# Altium schematic symbol library PrototipoBotao.SchLib: 31 symbols (part 1 of 3)
Pins are listed as number, name and electrical type; pins without a type are passive.

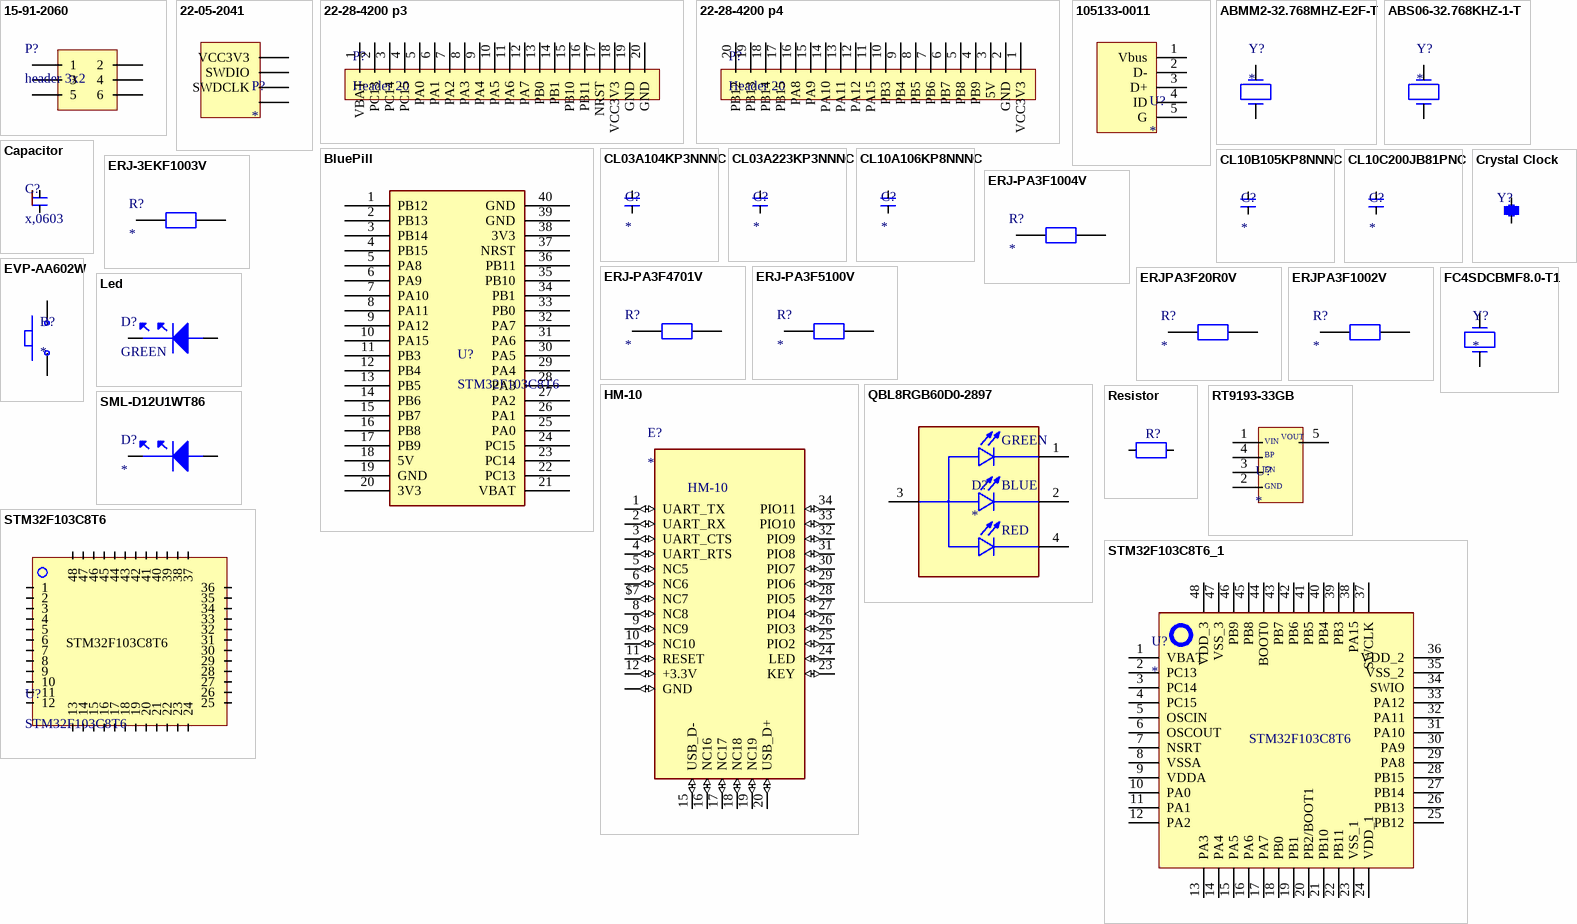
[diagram p0: symbols 15-91-2060 to STM32F103C8T6_1]

## 15-91-2060
designator P?, comment header 3x2
Conn Unshrouded Header HDR 6 POS 2.54mm Solder ST Top Entry SMD C-Grid Bag; Manufacturer: Molex; Manufacturer Lifecycle Status: ACTIVE; Contact Resistance: 15mΩ; Current Rating: 3A; Gender: Male; Glow Wire Compliant: Non-compliant; Max Voltage Rating (DC): 250.25kV; Number of Circuits: 5; Number of Contacts: 6; Plating: Tin; Plating Thickness: 3.81µm; Row Spacing: 4.44mm; Voltage Rating: 250V; Supplier: DigiKey; Supplier Part Number: WM17449-ND; Manufacturer Part Number: 15-91-2060; RoHS: Compliant; Category: Headers and Wire Housings; Stock: 6382; Pricing: 1=0,64, 10=0,54, 100=0,4586, 500=0,40928, 1000=0,38974, 5000=0,3479, 10000=0,3313 (USD); China RoHS: Compliant; Contact Gender: Male; Contact Material: Brass; Contact Plating: Tin; Country of Origin: US; ELV: Compliant; Flammability Rating: UL94 V-0; Halogen Free: Low Halogen; Housing Color: Black; Housing Material: Thermoplastic; Lead Free: Lead Free; Lead Pitch: 2.54mm; Lifecycle Status: Production; Material: Bronze; Max Operating Temperature: 105°C; Min Operating Temperature: -40°C; Mounting Technology: Surface Mount; Pins: 6; Number of Positions: 6; Number of Rows: 1; Orientation: Right Angle, Vertical; Packaging: Bulk; Pitch: 2.54mm; Radiation Hardening: No; REACH SVHC: Yes; Schedule B: 8536694040, 8536694040|8536694040|8536694040|8536694040|8536694040; Terminal Pitch: 2.54mm; Termination: SMD/SMT; Voltage Rating (DC): 250V; ComponentLink1URL: https://datasheet.octopart.com:443/015-91-2060-Molex-datasheet-180714819.pdf?src-supplier=IHS; ComponentLink1Description: https://datasheet.octopart.com:443/015-91-2060-Molex-datasheet-180714819.pdf?src-supplier=IHS; ComponentLink2URL: https://datasheet.octopart.com:443/015912060-Molex-datasheet-8333535.pdf?src-supplier=Upverter; ComponentLink2Description: https://datasheet.octopart.com:443/015912060-Molex-datasheet-8333535.pdf?src-supplier=Upverter; ComponentLink3URL: https://datasheet.octopart.com:443/15-91-2060-Molex-datasheet-167255.pdf?src-supplier=Newark; ComponentLink3Description: https://datasheet.octopart.com:443/15-91-2060-Molex-datasheet-167255.pdf?src-supplier=Newark; ComponentLink4URL: https://datasheet.octopart.com:443/15-91-2060-Molex-datasheet-112140292.pdf?src-supplier=Newark; ComponentLink4Description: https://datasheet.octopart.com:443/15-91-2060-Molex-datasheet-112140292.pdf?src-supplier=Newark; ComponentLink5URL: https://datasheet.octopart.com:443/15-91-2060-Molex-datasheet-32867571.pdf?src-supplier=Newark; ComponentLink5Description: https://datasheet.octopart.com:443/15-91-2060-Molex-datasheet-32867571.pdf?src-supplier=Newark; ComponentLink6URL: https://datasheet.octopart.com:443/15-91-2060-Molex-datasheet-21205732.pdf?src-supplier=Newark; ComponentLink6Description: https://datasheet.octopart.com:443/15-91-2060-Molex-datasheet-21205732.pdf?src-supplier=Newark; ComponentLink7URL: https://datasheet.octopart.com:443/15-91-2060-Molex-datasheet-13784410.pdf?src-supplier=Molex; ComponentLink7Description: https://datasheet.octopart.com:443/15-91-2060-Molex-datasheet-13784410.pdf?src-supplier=Molex; ComponentLink8URL: https://sigma.octopart.com:443/11591496/technical_drawing/Molex-15-91-2060.pdf?src-supplier=Molex; ComponentLink8Description: https://sigma.octopart.com:443/11591496/technical_drawing/Molex-15-91-2060.pdf?src-supplier=Molex; ComponentLink9URL: https://datasheet.octopart.com:443/15-91-2060-Molex-datasheet-101580612.pdf?src-supplier=element14+APAC; ComponentLink9Description: https://datasheet.octopart.com:443/15-91-2060-Molex-datasheet-101580612.pdf?src-supplier=element14+APAC; ComponentLink10URL: https://datasheet.octopart.com:443/15-91-2060-Molex-datasheet-154743799.pdf?src-supplier=Master+Electronics; ComponentLink10Description: https://datasheet.octopart.com:443/15-91-2060-Molex-datasheet-154743799.pdf?src-supplier=Master+Electronics; ComponentLink11URL: https://datasheet.octopart.com:443/15-91-2060-Molex-datasheet-21826448.pdf?src-supplier=Electro+Sonic; ComponentLink11Description: https://datasheet.octopart.com:443/15-91-2060-Molex-datasheet-21826448.pdf?src-supplier=Electro+Sonic; ComponentLink12URL: https://datasheet.octopart.com:443/15-91-2060-Molex-datasheet-62103021.pdf?src-supplier=Electro+Sonic; ComponentLink12Description: https://datasheet.octopart.com:443/15-91-2060-Molex-datasheet-62103021.pdf?src-supplier=Electro+Sonic; ComponentLink13URL: https://datasheet.octopart.com:443/15-91-2060-Molex-datasheet-37168100.pdf?src-supplier=Electro+Sonic; ComponentLink13Description: https://datasheet.octopart.com:443/15-91-2060-Molex-datasheet-37168100.pdf?src-supplier=Electro+Sonic; ComponentLink14URL: https://datasheet.octopart.com:443/15-91-2060-Molex-datasheet-168215678.pdf?src-supplier=TME; ComponentLink14Description: https://datasheet.octopart.com:443/15-91-2060-Molex-datasheet-168215678.pdf?src-supplier=TME; ComponentLink15URL: https://datasheet.octopart.com:443/15-91-2060-Molex-datasheet-140177408.pdf?src-supplier=RS+(Formerly+Allied+Electronics); ComponentLink15Description: https://datasheet.octopart.com:443/15-91-2060-Molex-datasheet-140177408.pdf?src-supplier=RS+(Formerly+Allied+Electronics); ComponentLink16URL: https://datasheet.octopart.com:443/15-91-2060-Molex-datasheet-120139705.pdf?src-supplier=RS+(Formerly+Allied+Electronics); ComponentLink16Description: https://datasheet.octopart.com:443/15-91-2060-Molex-datasheet-120139705.pdf?src-supplier=RS+(Formerly+Allied+Electronics); ComponentLink17URL: https://datasheet.octopart.com:443/15-91-2060-Molex-datasheet-110750473.pdf?src-supplier=RS+(Formerly+Allied+Electronics); ComponentLink17Description: https://datasheet.octopart.com:443/15-91-2060-Molex-datasheet-110750473.pdf?src-supplier=RS+(Formerly+Allied+Electronics); ComponentLink18URL: https://datasheet.octopart.com:443/15-91-2060-Molex-datasheet-140628.pdf?src-supplier=DigiKey; ComponentLink18Description: https://datasheet.octopart.com:443/15-91-2060-Molex-datasheet-140628.pdf?src-supplier=DigiKey; ComponentLink19URL: http://sigma.octopart.com:80/15622377/rohs_certificate/Molex-15-91-2060.pdf?src-supplier=Compliance+Statements; ComponentLink19Description: http://sigma.octopart.com:80/15622377/rohs_certificate/Molex-15-91-2060.pdf?src-supplier=Compliance+Statements; ComponentLink20URL: http://sigma.octopart.com:80/conflict_mineral_statement/Molex-company-72.pdf?src-supplier=Compliance+Statements; ComponentLink20Description: http://sigma.octopart.com:80/conflict_mineral_statement/Molex-company-72.pdf?src-supplier=Compliance+Statements; ComponentLink21URL: http://sigma.octopart.com:80/rohs_statement/Molex-company-73.pdf?src-supplier=Compliance+Statements; ComponentLink21Description: http://sigma.octopart.com:80/rohs_statement/Molex-company-73.pdf?src-supplier=Compliance+Statements; ComponentLink22URL: http://sigma.octopart.com:80/reach_statement/Molex-company-74.pdf?src-supplier=Compliance+Statements; ComponentLink22Description: http://sigma.octopart.com:80/reach_statement/Molex-company-74.pdf?src-supplier=Compliance+Statements
footprint HEADER3X2
pins: 1, 2, 3, 4, 5, 6

## 22-05-2041
designator P?
KK 254 Wire-to-Board Header Single Row 90° 4 Circuits PA Polyamide Nylon Tin Plating; Manufacturer: Molex; Manufacturer Lifecycle Status: ACTIVE; Approvals: CSA, UL; Contact Resistance: 10mΩ; Current Rating: 4A; Gender: Male; Glow Wire Compliant: Non-compliant; Hole Diameter: 1.02mm; Insulation Resistance: 1GΩ; Max Voltage Rating (AC): 250V; Number of Circuits: 3; Number of Contacts: 4; Operating Force: 1.946N; Pitch: 2.54mm; Plating Thickness: 1.524µm; Supplier: DigiKey; Supplier Part Number: WM4102-ND; Manufacturer Part Number: 22-05-2041; RoHS: Compliant; Category: Headers and Wire Housings; Stock: 29591; Pricing: 1=0,27, 10=0,225, 100=0,1915, 500=0,1709, 1000=0,16274, 5000=0,14526, 10000=0,13833 (USD); China RoHS: Compliant; Color: White; Contact Gender: Male; Contact Material: Brass; Contact Plating: Tin; Country of Origin: US; Dielectric Material: Polyamide; Flammability Rating: UL94 V-0; Halogen Free: Low Halogen; Height: 6.3mm; Housing Color: White; Housing Material: Nylon; Lead Free: Lead Free; Lead Pitch: 2.54mm; Length: 14.99mm; Lifecycle Status: Production; Material: Nylon; Max Current Rating: 4A; Max Operating Temperature: 80°C; Min Operating Temperature: -40°C; Mounting Technology: Through Hole; Pins: 4; Number of Poles: 4; Number of Positions: 4; Number of Rows: 1; Orientation: Right Angle; Packaging: Bulk; Plating: Tin; Radiation Hardening: No; REACH SVHC: Yes; Schedule B: 8536694040, 8536694040|8536694040|8536694040|8536694040|8536694040; Terminal Pitch: 2.54mm; Termination: Solder; Voltage Rating: 250V; Voltage Rating (AC): 250V; Voltage Rating (DC): 250V; Working Voltage: 250V; ComponentLink1URL: https://datasheet.octopart.com:443/22-05-2041-Molex-datasheet-147626231.pdf?src-supplier=IHS; ComponentLink1Description: https://datasheet.octopart.com:443/22-05-2041-Molex-datasheet-147626231.pdf?src-supplier=IHS; ComponentLink2URL: https://datasheet.octopart.com:443/22-05-2041-Molex-datasheet-13784463.pdf?src-supplier=Molex; ComponentLink2Description: https://datasheet.octopart.com:443/22-05-2041-Molex-datasheet-13784463.pdf?src-supplier=Molex; ComponentLink3URL: https://datasheet.octopart.com:443/22-05-2041-Molex-datasheet-10979761.pdf?src-supplier=Molex; ComponentLink3Description: https://datasheet.octopart.com:443/22-05-2041-Molex-datasheet-10979761.pdf?src-supplier=Molex; ComponentLink4URL: https://datasheet.octopart.com:443/022052041-Molex-datasheet-8333278.pdf?src-supplier=element14; ComponentLink4Description: https://datasheet.octopart.com:443/022052041-Molex-datasheet-8333278.pdf?src-supplier=element14; ComponentLink5URL: https://datasheet.octopart.com:443/22-05-2041-Molex-datasheet-154746857.pdf?src-supplier=Master+Electronics; ComponentLink5Description: https://datasheet.octopart.com:443/22-05-2041-Molex-datasheet-154746857.pdf?src-supplier=Master+Electronics; ComponentLink6URL: https://datasheet.octopart.com:443/22-05-2041-Molex-datasheet-140180740.pdf?src-supplier=RS+(Formerly+Allied+Electronics); ComponentLink6Description: https://datasheet.octopart.com:443/22-05-2041-Molex-datasheet-140180740.pdf?src-supplier=RS+(Formerly+Allied+Electronics); ComponentLink7URL: https://datasheet.octopart.com:443/22-05-2041-Molex-datasheet-120144870.pdf?src-supplier=RS+(Formerly+Allied+Electronics); ComponentLink7Description: https://datasheet.octopart.com:443/22-05-2041-Molex-datasheet-120144870.pdf?src-supplier=RS+(Formerly+Allied+Electronics); ComponentLink8URL: https://datasheet.octopart.com:443/22-05-2041-Molex-datasheet-34442164.pdf?src-supplier=RS+(Formerly+Allied+Electronics); ComponentLink8Description: https://datasheet.octopart.com:443/22-05-2041-Molex-datasheet-34442164.pdf?src-supplier=RS+(Formerly+Allied+Electronics); ComponentLink9URL: https://datasheet.octopart.com:443/22-05-2041-Molex-datasheet-9709106.pdf?src-supplier=RS+(Formerly+Allied+Electronics); ComponentLink9Description: https://datasheet.octopart.com:443/22-05-2041-Molex-datasheet-9709106.pdf?src-supplier=RS+(Formerly+Allied+Electronics); ComponentLink10URL: https://datasheet.octopart.com:443/22-05-2041-Molex-datasheet-77519686.pdf?src-supplier=Newark; ComponentLink10Description: https://datasheet.octopart.com:443/22-05-2041-Molex-datasheet-77519686.pdf?src-supplier=Newark; ComponentLink11URL: https://datasheet.octopart.com:443/22-05-2041-Molex-datasheet-62061355.pdf?src-supplier=Electro+Sonic; ComponentLink11Description: https://datasheet.octopart.com:443/22-05-2041-Molex-datasheet-62061355.pdf?src-supplier=Electro+Sonic; ComponentLink12URL: https://datasheet.octopart.com:443/22-05-2041-Molex-datasheet-37168651.pdf?src-supplier=Electro+Sonic; ComponentLink12Description: https://datasheet.octopart.com:443/22-05-2041-Molex-datasheet-37168651.pdf?src-supplier=Electro+Sonic; ComponentLink13URL: https://datasheet.octopart.com:443/22-05-2041-Molex-datasheet-23708887.pdf?src-supplier=Electro+Sonic; ComponentLink13Description: https://datasheet.octopart.com:443/22-05-2041-Molex-datasheet-23708887.pdf?src-supplier=Electro+Sonic; ComponentLink14URL: https://datasheet.octopart.com:443/0022052041-Molex-datasheet-11867047.pdf?src-supplier=Arrow+Electronics; ComponentLink14Description: https://datasheet.octopart.com:443/0022052041-Molex-datasheet-11867047.pdf?src-supplier=Arrow+Electronics; ComponentLink15URL: https://datasheet.octopart.com:443/22-05-2041-Molex-datasheet-125897.pdf?src-supplier=DigiKey; ComponentLink15Description: https://datasheet.octopart.com:443/22-05-2041-Molex-datasheet-125897.pdf?src-supplier=DigiKey; ComponentLink16URL: https://datasheet.octopart.com:443/22-05-2041-Molex-datasheet-7572988.pdf?src-supplier=Jameco; ComponentLink16Description: https://datasheet.octopart.com:443/22-05-2041-Molex-datasheet-7572988.pdf?src-supplier=Jameco; ComponentLink17URL: https://datasheet.octopart.com:443/22-05-2041-Molex-datasheet-528327.pdf?src-supplier=Farnell; ComponentLink17Description: https://datasheet.octopart.com:443/22-05-2041-Molex-datasheet-528327.pdf?src-supplier=Farnell; ComponentLink18URL: http://sigma.octopart.com:80/16295454/rohs_statement/Molex-22-05-2041.pdf?src-supplier=Compliance+Statements; ComponentLink18Description: http://sigma.octopart.com:80/16295454/rohs_statement/Molex-22-05-2041.pdf?src-supplier=Compliance+Statements; ComponentLink19URL: http://sigma.octopart.com:80/reach_statement/Molex-company-74.pdf?src-supplier=Compliance+Statements; ComponentLink19Description: http://sigma.octopart.com:80/reach_statement/Molex-company-74.pdf?src-supplier=Compliance+Statements; ComponentLink20URL: http://sigma.octopart.com:80/rohs_statement/Molex-company-73.pdf?src-supplier=Compliance+Statements; ComponentLink20Description: http://sigma.octopart.com:80/rohs_statement/Molex-company-73.pdf?src-supplier=Compliance+Statements; ComponentLink21URL: http://sigma.octopart.com:80/conflict_mineral_statement/Molex-company-72.pdf?src-supplier=Compliance+Statements; ComponentLink21Description: http://sigma.octopart.com:80/conflict_mineral_statement/Molex-company-72.pdf?src-supplier=Compliance+Statements
footprint 22-05-2041
pins: 1 VCC3V3, 2 SWDIO, 3 SWDCLK, 4

## 22-28-4200 p3
designator P?, comment Header 20
KK 254 Breakaway Header, Vertical, 20 Circuits, Tin (Sn) Plating, Mating Pin Length 6.09mm; Manufacturer: Molex; Manufacturer Lifecycle Status: ACTIVE; Connector Type: Male Pin; Contact Resistance: 10mΩ; Current Rating: 4A; Gender: Male; Insulation Resistance: 1GΩ; Max Voltage Rating (AC): 250V; Number of Circuits: 19; Number of Contacts: 20; Operating Force: 4.8928N; Pitch: 2.54mm; Plating Thickness: 2.54µm; Supplier: DigiKey; Supplier Part Number: WM50014-20-ND; Manufacturer Part Number: 22-28-4200; RoHS: Compliant; Category: Headers and Wire Housings; Stock: 376; Pricing: 1=0,96, 10=0,817, 100=0,6941, 500=0,61948, 1000=0,5899, 5000=0,52659, 10000=0,50148 (USD); China RoHS: Compliant; Color: Black; Contact Gender: Male; Contact Mating Length: 6.096mm; Contact Plating: Tin; Country of Origin: US; Depth: 2.49mm; Housing Color: Black; Lead Free: Lead Free; Lead Pitch: 2.54mm; Length: 50.8mm; Lifecycle Status: Production; Max Operating Temperature: 80°C; Min Operating Temperature: -40°C; Mounting Technology: Through Hole; Pins: 20; Number of Positions: 20; Number of Rows: 1; Orientation: Vertical; Packaging: Bulk; Plating: Tin; REACH SVHC: Yes; Terminal Pitch: 2.54mm; Termination: Solder; Voltage Rating (DC): 250V; ComponentLink1URL: https://datasheet.octopart.com:443/0022284200-Molex-datasheet-180714220.pdf?src-supplier=IHS; ComponentLink1Description: https://datasheet.octopart.com:443/0022284200-Molex-datasheet-180714220.pdf?src-supplier=IHS; ComponentLink2URL: https://datasheet.octopart.com:443/22-28-4200-Molex-datasheet-177722861.pdf?src-supplier=IHS; ComponentLink2Description: https://datasheet.octopart.com:443/22-28-4200-Molex-datasheet-177722861.pdf?src-supplier=IHS; ComponentLink3URL: https://datasheet.octopart.com:443/22-28-4200-Molex-datasheet-16300760.pdf?src-supplier=Molex; ComponentLink3Description: https://datasheet.octopart.com:443/22-28-4200-Molex-datasheet-16300760.pdf?src-supplier=Molex; ComponentLink4URL: https://sigma.octopart.com:443/16300370/technical_drawing/Molex-22-28-4200.pdf?src-supplier=Molex; ComponentLink4Description: https://sigma.octopart.com:443/16300370/technical_drawing/Molex-22-28-4200.pdf?src-supplier=Molex; ComponentLink5URL: https://datasheet.octopart.com:443/022284200-Molex-datasheet-8337137.pdf?src-supplier=Molex; ComponentLink5Description: https://datasheet.octopart.com:443/022284200-Molex-datasheet-8337137.pdf?src-supplier=Molex; ComponentLink6URL: https://datasheet.octopart.com:443/22-28-4200-Molex-datasheet-140181280.pdf?src-supplier=RS+(Formerly+Allied+Electronics); ComponentLink6Description: https://datasheet.octopart.com:443/22-28-4200-Molex-datasheet-140181280.pdf?src-supplier=RS+(Formerly+Allied+Electronics); ComponentLink7URL: https://datasheet.octopart.com:443/22-28-4200-Molex-datasheet-120146339.pdf?src-supplier=RS+(Formerly+Allied+Electronics); ComponentLink7Description: https://datasheet.octopart.com:443/22-28-4200-Molex-datasheet-120146339.pdf?src-supplier=RS+(Formerly+Allied+Electronics); ComponentLink8URL: https://datasheet.octopart.com:443/22-28-4200-Molex-datasheet-4210.pdf?src-supplier=DigiKey; ComponentLink8Description: https://datasheet.octopart.com:443/22-28-4200-Molex-datasheet-4210.pdf?src-supplier=DigiKey; ComponentLink9URL: http://sigma.octopart.com:80/16300761/rohs_statement/Molex-22-28-4200.pdf?src-supplier=Compliance+Statements; ComponentLink9Description: http://sigma.octopart.com:80/16300761/rohs_statement/Molex-22-28-4200.pdf?src-supplier=Compliance+Statements; ComponentLink10URL: http://sigma.octopart.com:80/conflict_mineral_statement/Molex-company-72.pdf?src-supplier=Compliance+Statements; ComponentLink10Description: http://sigma.octopart.com:80/conflict_mineral_statement/Molex-company-72.pdf?src-supplier=Compliance+Statements; ComponentLink11URL: http://sigma.octopart.com:80/rohs_statement/Molex-company-73.pdf?src-supplier=Compliance+Statements; ComponentLink11Description: http://sigma.octopart.com:80/rohs_statement/Molex-company-73.pdf?src-supplier=Compliance+Statements; ComponentLink12URL: http://sigma.octopart.com:80/reach_statement/Molex-company-74.pdf?src-supplier=Compliance+Statements; ComponentLink12Description: http://sigma.octopart.com:80/reach_statement/Molex-company-74.pdf?src-supplier=Compliance+Statements
footprint 20pin
pins: 1 VBAT, 2 PC13, 3 PC14, 4 PC15, 5 PA0, 6 PA1, 7 PA2, 8 PA3, 9 PA4, 10 PA5, 11 PA6, 12 PA7, 13 PB0, 14 PB1, 15 PB10, 16 PB11, 17 NRST, 18 VCC3V3, 19 GND, 20 GND

## 22-28-4200 p4
designator P?, comment Header 20
KK 254 Breakaway Header, Vertical, 20 Circuits, Tin (Sn) Plating, Mating Pin Length 6.09mm; Manufacturer: Molex; Manufacturer Lifecycle Status: ACTIVE; Connector Type: Male Pin; Contact Resistance: 10mΩ; Current Rating: 4A; Gender: Male; Insulation Resistance: 1GΩ; Max Voltage Rating (AC): 250V; Number of Circuits: 19; Number of Contacts: 20; Operating Force: 4.8928N; Pitch: 2.54mm; Plating Thickness: 2.54µm; Supplier: DigiKey; Supplier Part Number: WM50014-20-ND; Manufacturer Part Number: 22-28-4200; RoHS: Compliant; Category: Headers and Wire Housings; Stock: 376; Pricing: 1=0,96, 10=0,817, 100=0,6941, 500=0,61948, 1000=0,5899, 5000=0,52659, 10000=0,50148 (USD); China RoHS: Compliant; Color: Black; Contact Gender: Male; Contact Mating Length: 6.096mm; Contact Plating: Tin; Country of Origin: US; Depth: 2.49mm; Housing Color: Black; Lead Free: Lead Free; Lead Pitch: 2.54mm; Length: 50.8mm; Lifecycle Status: Production; Max Operating Temperature: 80°C; Min Operating Temperature: -40°C; Mounting Technology: Through Hole; Pins: 20; Number of Positions: 20; Number of Rows: 1; Orientation: Vertical; Packaging: Bulk; Plating: Tin; REACH SVHC: Yes; Terminal Pitch: 2.54mm; Termination: Solder; Voltage Rating (DC): 250V; ComponentLink1URL: https://datasheet.octopart.com:443/0022284200-Molex-datasheet-180714220.pdf?src-supplier=IHS; ComponentLink1Description: https://datasheet.octopart.com:443/0022284200-Molex-datasheet-180714220.pdf?src-supplier=IHS; ComponentLink2URL: https://datasheet.octopart.com:443/22-28-4200-Molex-datasheet-177722861.pdf?src-supplier=IHS; ComponentLink2Description: https://datasheet.octopart.com:443/22-28-4200-Molex-datasheet-177722861.pdf?src-supplier=IHS; ComponentLink3URL: https://datasheet.octopart.com:443/22-28-4200-Molex-datasheet-16300760.pdf?src-supplier=Molex; ComponentLink3Description: https://datasheet.octopart.com:443/22-28-4200-Molex-datasheet-16300760.pdf?src-supplier=Molex; ComponentLink4URL: https://sigma.octopart.com:443/16300370/technical_drawing/Molex-22-28-4200.pdf?src-supplier=Molex; ComponentLink4Description: https://sigma.octopart.com:443/16300370/technical_drawing/Molex-22-28-4200.pdf?src-supplier=Molex; ComponentLink5URL: https://datasheet.octopart.com:443/022284200-Molex-datasheet-8337137.pdf?src-supplier=Molex; ComponentLink5Description: https://datasheet.octopart.com:443/022284200-Molex-datasheet-8337137.pdf?src-supplier=Molex; ComponentLink6URL: https://datasheet.octopart.com:443/22-28-4200-Molex-datasheet-140181280.pdf?src-supplier=RS+(Formerly+Allied+Electronics); ComponentLink6Description: https://datasheet.octopart.com:443/22-28-4200-Molex-datasheet-140181280.pdf?src-supplier=RS+(Formerly+Allied+Electronics); ComponentLink7URL: https://datasheet.octopart.com:443/22-28-4200-Molex-datasheet-120146339.pdf?src-supplier=RS+(Formerly+Allied+Electronics); ComponentLink7Description: https://datasheet.octopart.com:443/22-28-4200-Molex-datasheet-120146339.pdf?src-supplier=RS+(Formerly+Allied+Electronics); ComponentLink8URL: https://datasheet.octopart.com:443/22-28-4200-Molex-datasheet-4210.pdf?src-supplier=DigiKey; ComponentLink8Description: https://datasheet.octopart.com:443/22-28-4200-Molex-datasheet-4210.pdf?src-supplier=DigiKey; ComponentLink9URL: http://sigma.octopart.com:80/16300761/rohs_statement/Molex-22-28-4200.pdf?src-supplier=Compliance+Statements; ComponentLink9Description: http://sigma.octopart.com:80/16300761/rohs_statement/Molex-22-28-4200.pdf?src-supplier=Compliance+Statements; ComponentLink10URL: http://sigma.octopart.com:80/conflict_mineral_statement/Molex-company-72.pdf?src-supplier=Compliance+Statements; ComponentLink10Description: http://sigma.octopart.com:80/conflict_mineral_statement/Molex-company-72.pdf?src-supplier=Compliance+Statements; ComponentLink11URL: http://sigma.octopart.com:80/rohs_statement/Molex-company-73.pdf?src-supplier=Compliance+Statements; ComponentLink11Description: http://sigma.octopart.com:80/rohs_statement/Molex-company-73.pdf?src-supplier=Compliance+Statements; ComponentLink12URL: http://sigma.octopart.com:80/reach_statement/Molex-company-74.pdf?src-supplier=Compliance+Statements; ComponentLink12Description: http://sigma.octopart.com:80/reach_statement/Molex-company-74.pdf?src-supplier=Compliance+Statements
footprint 20pin
pins: 1 VCC3V3, 2 GND, 3 5V, 4 PB9, 5 PB8, 6 PB7, 7 PB6, 8 PB5, 9 PB4, 10 PB3, 11 PA15, 12 PA12, 13 PA11, 14 PA10, 15 PA9, 16 PA8, 17 PB15, 18 PB14, 19 PB13, 20 PB12

## 105133-0011
designator U?
Conn Micro USB 2.0 Type B RCP 5 POS 0.65mm Solder ST SMD 5 Terminal 1 Port Micro-USB T/R; Manufacturer: Molex; Manufacturer Part Number: 105133-0011; Manufacturer Lifecycle Status: ACTIVE; Contact Resistance: 30mΩ; Current Rating: 1A; Dielectric Material: Polyethylene; Gender: Female; Insulation Resistance: 1GΩ; Max Voltage Rating (AC): 30V; Number of Circuits: 5; Number of Ports: 1; Pitch: 650µm; Plating: Gold; USB Standard: USB 2.0; Supplier: DigiKey; Supplier Part Number: WM10134CT-ND; RoHS: Compliant; Category: USB Connectors; Stock: 11180; Pricing: 1=1,19, 10=1,014, 25=0,9504, 50=0,9048, 100=0,8616, 250=0,80764, 500=0,71146, 1000=0,6775, 1500=0,65839, 2500=0,63509, 3500=0,62019, 5000=0,60479, 12500=0,56696 (USD); China RoHS: Compliant; Color: Black; Connector Type: USB; Contact Gender: Female; Contact Material: Brass; Contact Plating: Gold; Country of Origin: TW; Depth: 4.45mm; Flammability Rating: UL94 V-0; Halogen Free: Low Halogen; Height: 6.95mm; Housing Material: Thermoplastic; Lead Free: Lead Free; Length: 8mm; Lifecycle Status: Production; Max Operating Temperature: 85°C; Min Operating Temperature: -30°C; Mounting Technology: Surface Mount, Vertical; Number of Contacts: 5; Pins: 5; Number of Rows: 1; Number of Terminals: 5; Orientation: Right Angle, Vertical; Packaging: Tape & Reel (TR); REACH SVHC: Yes; Schedule B: 8536695050, 8536695050|8536695050, 8536695050|8536695050|8536695050, 8536695050|8536695050|8536695050|8536695050; Shell Material: Stainless Steel; Terminal Pitch: 660.4µm; Termination: Solder; Voltage Rating: 30V; Voltage Rating (AC): 30V; ComponentLink1URL: https://sigma.octopart.com:443/142372729/technical_drawing/Molex-1051330011.pdf?src-supplier=Upverter; ComponentLink1Description: https://sigma.octopart.com:443/142372729/technical_drawing/Molex-1051330011.pdf?src-supplier=Upverter; ComponentLink2URL: https://datasheet.octopart.com:443/1051330011-Molex-datasheet-142372715.pdf?src-supplier=Upverter; ComponentLink2Description: https://datasheet.octopart.com:443/1051330011-Molex-datasheet-142372715.pdf?src-supplier=Upverter; ComponentLink3URL: https://datasheet.octopart.com:443/105133-0011-Molex-datasheet-62059206.pdf?src-supplier=TME; ComponentLink3Description: https://datasheet.octopart.com:443/105133-0011-Molex-datasheet-62059206.pdf?src-supplier=TME; ComponentLink4URL: https://datasheet.octopart.com:443/1051330011-Molex-datasheet-16324372.pdf?src-supplier=Sager+Electronics; ComponentLink4Description: https://datasheet.octopart.com:443/1051330011-Molex-datasheet-16324372.pdf?src-supplier=Sager+Electronics; ComponentLink5URL: https://sigma.octopart.com:443/16324376/technical_drawing/Molex-1051330011.pdf?src-supplier=Molex; ComponentLink5Description: https://sigma.octopart.com:443/16324376/technical_drawing/Molex-1051330011.pdf?src-supplier=Molex; ComponentLink6URL: https://datasheet.octopart.com:443/105133-0011-Molex-datasheet-66419580.pdf?src-supplier=element14+APAC; ComponentLink6Description: https://datasheet.octopart.com:443/105133-0011-Molex-datasheet-66419580.pdf?src-supplier=element14+APAC; ComponentLink7URL: https://datasheet.octopart.com:443/105133-0011-Molex-datasheet-140174749.pdf?src-supplier=RS+(Formerly+Allied+Electronics); ComponentLink7Description: https://datasheet.octopart.com:443/105133-0011-Molex-datasheet-140174749.pdf?src-supplier=RS+(Formerly+Allied+Electronics); ComponentLink8URL: https://datasheet.octopart.com:443/105133-0011-Molex-datasheet-120135192.pdf?src-supplier=RS+(Formerly+Allied+Electronics); ComponentLink8Description: https://datasheet.octopart.com:443/105133-0011-Molex-datasheet-120135192.pdf?src-supplier=RS+(Formerly+Allied+Electronics); ComponentLink9URL: https://datasheet.octopart.com:443/1051330011-Molex-datasheet-137316104.pdf?src-supplier=Future+Electronics; ComponentLink9Description: https://datasheet.octopart.com:443/1051330011-Molex-datasheet-137316104.pdf?src-supplier=Future+Electronics; ComponentLink10URL: http://sigma.octopart.com:80/16324374/rohs_statement/Molex-1051330011.pdf?src-supplier=Compliance+Statements; ComponentLink10Description: http://sigma.octopart.com:80/16324374/rohs_statement/Molex-1051330011.pdf?src-supplier=Compliance+Statements; ComponentLink11URL: http://sigma.octopart.com:80/conflict_mineral_statement/Molex-company-72.pdf?src-supplier=Compliance+Statements; ComponentLink11Description: http://sigma.octopart.com:80/conflict_mineral_statement/Molex-company-72.pdf?src-supplier=Compliance+Statements; ComponentLink12URL: http://sigma.octopart.com:80/rohs_statement/Molex-company-73.pdf?src-supplier=Compliance+Statements; ComponentLink12Description: http://sigma.octopart.com:80/rohs_statement/Molex-company-73.pdf?src-supplier=Compliance+Statements; ComponentLink13URL: http://sigma.octopart.com:80/reach_statement/Molex-company-74.pdf?src-supplier=Compliance+Statements; ComponentLink13Description: http://sigma.octopart.com:80/reach_statement/Molex-company-74.pdf?src-supplier=Compliance+Statements
footprint usb
pins: 1 Vbus, 2 D-, 3 D+, 4 ID, 5 G

## ABMM2-32.768MHZ-E2F-T
designator Y?
Crystal, Standard, 32.768 MHz, SMD, 6mm x 3.6mm x 1.2mm, 20 ppm, 18 pF, 20 ppm, ABMM2; Manufacturer: Abracon; Manufacturer Part Number: ABMM2-32.768MHZ-E2F-T; ESR (Equivalent Series Resistance): 50Ω; Frequency Stability: 20ppm; Frequency Tolerance: 0.002%; Load Capacitance: 18pF; ESR: 60Ω; Supplier: DigiKey; Supplier Part Number: 535-9643-1-ND; RoHS: Compliant; Category: Crystals; Stock: 3676; Pricing: 1=0,95, 10=0,822, 25=0,7772, 50=0,745, 100=0,7141, 250=0,67528, 500=0,64736 (USD); Case/Package: CSMD; China RoHS: Compliant; Depth: 3.6mm; Frequency: 32.768MHz; Height: 1.1938mm; Lead Free: Lead Free; Length: 6mm; Lifecycle Status: Production; Max Operating Temperature: 70°C; Min Operating Temperature: -20°C; Mounting Technology: Surface Mount; Pins: 4; Packaging: Cut Tape; REACH SVHC: Yes; Width: 3.6068mm; ComponentLink1URL: https://datasheet.octopart.com:443/ABMM2-32.768MHZ-E2F-T-Abracon-datasheet-13513840.pdf?src-supplier=JRH+Electronics; ComponentLink1Description: https://datasheet.octopart.com:443/ABMM2-32.768MHZ-E2F-T-Abracon-datasheet-13513840.pdf?src-supplier=JRH+Electronics; ComponentLink2URL: https://datasheet.octopart.com:443/ABMM2-32.768MHZ-E2F-T-Abracon-datasheet-189095943.pdf?src-supplier=Master+Electronics; ComponentLink2Description: https://datasheet.octopart.com:443/ABMM2-32.768MHZ-E2F-T-Abracon-datasheet-189095943.pdf?src-supplier=Master+Electronics; ComponentLink3URL: https://datasheet.octopart.com:443/ABMM2-32.768MHZ-E2F-T-Abracon-datasheet-166807293.pdf?src-supplier=RS+(Formerly+Allied+Electronics); ComponentLink3Description: https://datasheet.octopart.com:443/ABMM2-32.768MHZ-E2F-T-Abracon-datasheet-166807293.pdf?src-supplier=RS+(Formerly+Allied+Electronics); ComponentLink4URL: https://datasheet.octopart.com:443/ABMM2-32.768MHZ-E2F-T-Abracon-datasheet-10290647.pdf?src-supplier=Sager+Electronics; ComponentLink4Description: https://datasheet.octopart.com:443/ABMM2-32.768MHZ-E2F-T-Abracon-datasheet-10290647.pdf?src-supplier=Sager+Electronics; ComponentLink5URL: https://datasheet.octopart.com:443/ABMM2-32.768MHZ-E2F-T-Abracon-datasheet-10059766.pdf?src-supplier=Sager+Electronics; ComponentLink5Description: https://datasheet.octopart.com:443/ABMM2-32.768MHZ-E2F-T-Abracon-datasheet-10059766.pdf?src-supplier=Sager+Electronics; ComponentLink6URL: https://datasheet.octopart.com:443/ABMM2-32.768MHZ-E2F-T-Abracon-datasheet-8885580.pdf?src-supplier=Sager+Electronics; ComponentLink6Description: https://datasheet.octopart.com:443/ABMM2-32.768MHZ-E2F-T-Abracon-datasheet-8885580.pdf?src-supplier=Sager+Electronics; ComponentLink7URL: https://datasheet.octopart.com:443/ABMM2-32.768MHZ-E2F-T-Abracon-datasheet-8491634.pdf?src-supplier=Sager+Electronics; ComponentLink7Description: https://datasheet.octopart.com:443/ABMM2-32.768MHZ-E2F-T-Abracon-datasheet-8491634.pdf?src-supplier=Sager+Electronics; ComponentLink8URL: https://datasheet.octopart.com:443/ABMM2-32.768MHZ-E2F-T-Abracon-datasheet-8325393.pdf?src-supplier=Sager+Electronics; ComponentLink8Description: https://datasheet.octopart.com:443/ABMM2-32.768MHZ-E2F-T-Abracon-datasheet-8325393.pdf?src-supplier=Sager+Electronics; ComponentLink9URL: https://datasheet.octopart.com:443/ABMM2-32.768MHZ-E2F-T-Abracon-datasheet-5328723.pdf?src-supplier=Sager+Electronics; ComponentLink9Description: https://datasheet.octopart.com:443/ABMM2-32.768MHZ-E2F-T-Abracon-datasheet-5328723.pdf?src-supplier=Sager+Electronics; ComponentLink10URL: https://datasheet.octopart.com:443/ABMM2-32.768MHZ-E2F-T-Abracon-datasheet-123023.pdf?src-supplier=DigiKey; ComponentLink10Description: https://datasheet.octopart.com:443/ABMM2-32.768MHZ-E2F-T-Abracon-datasheet-123023.pdf?src-supplier=DigiKey; ComponentLink11URL: http://sigma.octopart.com:80/conflict_mineral_statement/Abracon-company-27.pdf?src-supplier=Compliance+Statements; ComponentLink11Description: http://sigma.octopart.com:80/conflict_mineral_statement/Abracon-company-27.pdf?src-supplier=Compliance+Statements
pins: 1, 2

## ABS06-32.768KHZ-1-T
designator Y?
Crystal, 32.7680KHZ, 12.5PF SMD, 2.0 X 1.2 x 0.6 mm, ABS06 Series | Abracon ABS06-32.768KHz-1-T; ESR (Equivalent Series Resistance): 90kΩ; Frequency Stability: 144ppm; Frequency Tolerance: 0.001%; Supplier: DigiKey; Supplier Part Number: 535-10248-1-ND; Manufacturer: Abracon; Manufacturer Part Number: ABS06-32.768KHZ-1-T; RoHS: Compliant; Category: Crystals; Stock: 361730; Pricing: 1=0,69, 10=0,604, 25=0,5712, 50=0,5476, 100=0,5249, 250=0,4964, 500=0,47586, 1000=0,45617 (USD); Case/Package: CSMD; China RoHS: Compliant; Contact Plating: Gold; Depth: 1.2mm; Frequency: 32.768kHz; Height: 600µm; Lead Free: Lead Free; Length: 2mm; Lifecycle Status: Production; Load Capacitance: 12.5pF; Max Operating Temperature: 85°C; Min Operating Temperature: -40°C; Mounting Technology: Surface Mount; Pins: 2; Packaging: Cut Tape; Radiation Hardening: No; REACH SVHC: Yes; Schedule B: 8541600025; ESR: 90kΩ; Termination: SMD/SMT; Tolerance: 0.001%; Width: 1.2mm; ComponentLink1URL: https://datasheet.octopart.com:443/ABS06-32.768KHZ-1-T-Abracon-datasheet-166807294.pdf?src-supplier=IHS; ComponentLink1Description: https://datasheet.octopart.com:443/ABS06-32.768KHZ-1-T-Abracon-datasheet-166807294.pdf?src-supplier=IHS; ComponentLink2URL: https://datasheet.octopart.com:443/ABS06-32.768KHZ-1-T-Abracon-datasheet-41191558.pdf?src-supplier=element14+APAC; ComponentLink2Description: https://datasheet.octopart.com:443/ABS06-32.768KHZ-1-T-Abracon-datasheet-41191558.pdf?src-supplier=element14+APAC; ComponentLink3URL: https://datasheet.octopart.com:443/ABS06-32.768KHZ-1-T-Abracon-datasheet-10980089.pdf?src-supplier=Sager+Electronics; ComponentLink3Description: https://datasheet.octopart.com:443/ABS06-32.768KHZ-1-T-Abracon-datasheet-10980089.pdf?src-supplier=Sager+Electronics; ComponentLink4URL: https://datasheet.octopart.com:443/ABS06-32.768KHZ-1-T-Abracon-datasheet-8509249.pdf?src-supplier=Sager+Electronics; ComponentLink4Description: https://datasheet.octopart.com:443/ABS06-32.768KHZ-1-T-Abracon-datasheet-8509249.pdf?src-supplier=Sager+Electronics; ComponentLink5URL: https://datasheet.octopart.com:443/ABS06-32.768KHZ-1-T-Abracon-datasheet-154833176.pdf?src-supplier=TME; ComponentLink5Description: https://datasheet.octopart.com:443/ABS06-32.768KHZ-1-T-Abracon-datasheet-154833176.pdf?src-supplier=TME; ComponentLink6URL: https://datasheet.octopart.com:443/ABS06-32.768KHZ-1-T-Abracon-datasheet-37124832.pdf?src-supplier=Farnell; ComponentLink6Description: https://datasheet.octopart.com:443/ABS06-32.768KHZ-1-T-Abracon-datasheet-37124832.pdf?src-supplier=Farnell; ComponentLink7URL: http://sigma.octopart.com:80/conflict_mineral_statement/Abracon-company-27.pdf?src-supplier=Compliance+Statements; ComponentLink7Description: http://sigma.octopart.com:80/conflict_mineral_statement/Abracon-company-27.pdf?src-supplier=Compliance+Statements
footprint CRYSTAL_32.7680kHz
pins: 1, 2

## BluePill
designator U?, comment STM32F103C8T6
Designed By @Alixahedi
footprint Stm32 BluePill
pins: 1 PB12, 2 PB13, 3 PB14, 4 PB15, 5 PA8, 6 PA9, 7 PA10, 8 PA11, 9 PA12, 10 PA15, 11 PB3, 12 PB4, 13 PB5, 14 PB6, 15 PB7, 16 PB8, 17 PB9, 18 5V, 19 GND, 20 3V3, 21 VBAT, 22 PC13, 23 PC14, 24 PC15, 25 PA0, 26 PA1, 27 PA2, 28 PA3, 29 PA4, 30 PA5, 31 PA6, 32 PA7, 33 PB0, 34 PB1, 35 PB10, 36 PB11, 37 NRST, 38 3V3, 39 GND, 40 GND

## Capacitor
designator C?, comment x,0603
Capacitor 0603; Manufacturer: Murata; Manufacturer Part Number: GRM033C71C104KE14D; Manufacturer Lifecycle Status: IN PRODUCTION; Capacitance: 100nF; Dielectric: X7S; Dielectric Material: Ceramic; Tolerance: 10%; Voltage Rating: 16V; Supplier 1: Avnet; Supplier Part Number 1: GRM033C71C104KE14D; RoHS: Compliant; Category: Ceramic Capacitors; Stock 1: 960000; Pricing 1: 15000=0,00312, 30000=0,00304, 60000=0,003, 90000=0,00294, 120000=0,00293 (USD); Case/Package: 0201; Case Code (Imperial): 0201; Case Code (Metric): 0603; Height: 300µm; Length: 600µm; Lifecycle Status: Production; Material: Ceramic; Max Operating Temperature: 125°C; Min Operating Temperature: -55°C; Mount: Surface Mount; Number of Terminals: 2; Packaging: Digi-Reel®; REACH SVHC: Yes; Schedule B: 8532240020, 8532240020|8532240020, 8532240020|8532240020|8532240020, 8532240020|8532240020|8532240020|8532240020; Termination: SMD/SMT; Thickness: 300µm; Voltage Rating (DC): 16V; Weight: 340.194278µg; Width: 300µm; ComponentLink1URL: https://datasheet.octopart.com:443/GRM033C71C104KE14D-Murata-datasheet-178521774.pdf?src-supplier=Arrow.cn; ComponentLink1Description: https://datasheet.octopart.com:443/GRM033C71C104KE14D-Murata-datasheet-178521774.pdf?src-supplier=Arrow.cn; ComponentLink2URL: https://datasheet.octopart.com:443/GRM033C71C104KE14D-Murata-datasheet-150009099.pdf?src-supplier=Arrow.cn; ComponentLink2Description: https://datasheet.octopart.com:443/GRM033C71C104KE14D-Murata-datasheet-150009099.pdf?src-supplier=Arrow.cn; ComponentLink3URL: https://datasheet.octopart.com:443/GRM033C71C104KE14D-Murata-datasheet-165579666.pdf?src-supplier=TME; ComponentLink3Description: https://datasheet.octopart.com:443/GRM033C71C104KE14D-Murata-datasheet-165579666.pdf?src-supplier=TME; ComponentLink4URL: https://datasheet.octopart.com:443/GRM033C71C104KE14D-Murata-datasheet-141274204.pdf?src-supplier=Ciiva; ComponentLink4Description: https://datasheet.octopart.com:443/GRM033C71C104KE14D-Murata-datasheet-141274204.pdf?src-supplier=Ciiva; ComponentLink5URL: https://datasheet.octopart.com:443/GRM033C71C104KE14D-Murata-datasheet-140675366.pdf?src-supplier=Ciiva; ComponentLink5Description: https://datasheet.octopart.com:443/GRM033C71C104KE14D-Murata-datasheet-140675366.pdf?src-supplier=Ciiva; ComponentLink6URL: https://datasheet.octopart.com:443/GRM033C71C104KE14D-Murata-datasheet-138738157.pdf?src-supplier=Ciiva; ComponentLink6Description: https://datasheet.octopart.com:443/GRM033C71C104KE14D-Murata-datasheet-138738157.pdf?src-supplier=Ciiva; ComponentLink7URL: https://datasheet.octopart.com:443/GRM033C71C104KE14D-Murata-datasheet-22122223.pdf?src-supplier=Future+Electronics; ComponentLink7Description: https://datasheet.octopart.com:443/GRM033C71C104KE14D-Murata-datasheet-22122223.pdf?src-supplier=Future+Electronics; ComponentLink8URL: https://datasheet.octopart.com/GRM033C71C104KE14D-Murata-datasheet-12515295.pdf; ComponentLink8Description: https://datasheet.octopart.com/GRM033C71C104KE14D-Murata-datasheet-12515295.pdf; ComponentLink9URL: https://datasheet.octopart.com/GRM033C71C104KE14D-Murata-datasheet-12510076.pdf; ComponentLink9Description: https://datasheet.octopart.com/GRM033C71C104KE14D-Murata-datasheet-12510076.pdf; ComponentLink10URL: https://datasheet.octopart.com/GRM033C71C104KE14D-Murata-datasheet-11978611.pdf; ComponentLink10Description: https://datasheet.octopart.com/GRM033C71C104KE14D-Murata-datasheet-11978611.pdf; ComponentLink11URL: https://datasheet.octopart.com/GRM033C71C104KE14D-Murata-datasheet-10025737.pdf; ComponentLink11Description: https://datasheet.octopart.com/GRM033C71C104KE14D-Murata-datasheet-10025737.pdf; ComponentLink12URL: https://datasheet.octopart.com/GRM033C71C104KE14D-Murata-datasheet-8819587.pdf; ComponentLink12Description: https://datasheet.octopart.com/GRM033C71C104KE14D-Murata-datasheet-8819587.pdf; ComponentLink13URL: http://sigma.octopart.com:80/reach_statement/Murata-company-16.pdf?src-supplier=Compliance+Statements; ComponentLink13Description: http://sigma.octopart.com:80/reach_statement/Murata-company-16.pdf?src-supplier=Compliance+Statements
footprint C0603
pins: 1, 2

## CL03A104KP3NNNC
designator C?
10V 100nF X5R ±10% 0201 Multilayer Ceramic Capacitors MLCC - SMD/SMT ROHS; Manufacturer: Samsung Electro-Mechanics; Manufacturer Part Number: CL03A104KP3NNNC; Supplier: DigiKey; Supplier Part Number: 1276-1115-1-ND; RoHS: Compliant; Category: Ceramic Capacitors; Stock: 51; Pricing: 1=0,08, 10=0,003 (USD); Value: 100nF; Case/Package: 0201; Case Code (Imperial): 0201; Case Code (Metric): 0603; China RoHS: Compliant; Contact Plating: Tin; Depth: 300µm; Dielectric: X5R; Dielectric Material: Ceramic; Height: 300µm; Lead Free: Lead Free; Length: 600µm; Lifecycle Status: Production; Material: Ceramic; Max Operating Temperature: 85°C; Min Operating Temperature: -55°C; Mounting Technology: Surface Mount; Number of Terminals: 2; Packaging: Tape & Reel; Radiation Hardening: No; REACH SVHC: Yes; Schedule B: 8532240020, 8532240020|8532240020, 8532240020|8532240020|8532240020, 8532240020|8532240020|8532240020|8532240020; Thickness: 330.2µm; Tolerance: 10%; Voltage Rating: 10V; Voltage Rating (DC): 10V; Width: 300µm; ComponentLink1URL: https://datasheet.octopart.com:443/CL03A104KP3NNNC-Samsung-Electro-Mechanics-datasheet-136031699.pdf?src-supplier=IHS; ComponentLink1Description: https://datasheet.octopart.com:443/CL03A104KP3NNNC-Samsung-Electro-Mechanics-datasheet-136031699.pdf?src-supplier=IHS; ComponentLink2URL: https://datasheet.octopart.com:443/CL03A104KP3NNNC-Samsung-Electro-Mechanics-datasheet-141346650.pdf?src-supplier=Samsung+SCT; ComponentLink2Description: https://datasheet.octopart.com:443/CL03A104KP3NNNC-Samsung-Electro-Mechanics-datasheet-141346650.pdf?src-supplier=Samsung+SCT; ComponentLink3URL: https://datasheet.octopart.com:443/CL03A104KP3NNNC-Samsung-Electro-Mechanics-datasheet-110226168.pdf?src-supplier=Future+Electronics; ComponentLink3Description: https://datasheet.octopart.com:443/CL03A104KP3NNNC-Samsung-Electro-Mechanics-datasheet-110226168.pdf?src-supplier=Future+Electronics; ComponentLink4URL: https://datasheet.octopart.com:443/CL03A104KP3NNNC-Samsung-Electro-Mechanics-datasheet-96443584.pdf?src-supplier=Future+Electronics; ComponentLink4Description: https://datasheet.octopart.com:443/CL03A104KP3NNNC-Samsung-Electro-Mechanics-datasheet-96443584.pdf?src-supplier=Future+Electronics; ComponentLink5URL: https://datasheet.octopart.com:443/CL03A104KP3NNNC-Samsung-Electro-Mechanics-datasheet-68297032.pdf?src-supplier=Future+Electronics; ComponentLink5Description: https://datasheet.octopart.com:443/CL03A104KP3NNNC-Samsung-Electro-Mechanics-datasheet-68297032.pdf?src-supplier=Future+Electronics; ComponentLink6URL: https://datasheet.octopart.com:443/CL03A104KP3NNNC-Samsung-datasheet-42485101.pdf?src-supplier=Future+Electronics; ComponentLink6Description: https://datasheet.octopart.com:443/CL03A104KP3NNNC-Samsung-datasheet-42485101.pdf?src-supplier=Future+Electronics; ComponentLink7URL: https://datasheet.octopart.com:443/CL03A104KP3NNNC-Samsung-datasheet-28508247.pdf?src-supplier=Future+Electronics; ComponentLink7Description: https://datasheet.octopart.com:443/CL03A104KP3NNNC-Samsung-datasheet-28508247.pdf?src-supplier=Future+Electronics; ComponentLink8URL: https://datasheet.octopart.com:443/CL03A104KP3NNNC-Samsung-datasheet-8325397.pdf?src-supplier=Future+Electronics; ComponentLink8Description: https://datasheet.octopart.com:443/CL03A104KP3NNNC-Samsung-datasheet-8325397.pdf?src-supplier=Future+Electronics; ComponentLink9URL: https://datasheet.octopart.com:443/CL03A104KP3NNNC-Samsung-Electro-Mechanics-datasheet-149136603.pdf?src-supplier=Future+Electronics; ComponentLink9Description: https://datasheet.octopart.com:443/CL03A104KP3NNNC-Samsung-Electro-Mechanics-datasheet-149136603.pdf?src-supplier=Future+Electronics; ComponentLink10URL: https://datasheet.octopart.com/CL03A104KP3NNNC-Samsung-Electro-Mechanics-datasheet-97040617.pdf; ComponentLink10Description: https://datasheet.octopart.com/CL03A104KP3NNNC-Samsung-Electro-Mechanics-datasheet-97040617.pdf; ComponentLink11URL: https://datasheet.octopart.com/CL03A104KP3NNNC-Samsung-Electro-Mechanics-datasheet-8324245.pdf; ComponentLink11Description: https://datasheet.octopart.com/CL03A104KP3NNNC-Samsung-Electro-Mechanics-datasheet-8324245.pdf; ComponentLink12URL: https://datasheet.octopart.com/General-Multilayer-Ceramic-Capacitors-Samsung-datasheet-family-111.pdf; ComponentLink12Description: https://datasheet.octopart.com/General-Multilayer-Ceramic-Capacitors-Samsung-datasheet-family-111.pdf; ComponentLink13URL: https://datasheet.octopart.com:443/CL03A104KP3NNNC-Samsung-datasheet-8326407.pdf?src-supplier=TME; ComponentLink13Description: https://datasheet.octopart.com:443/CL03A104KP3NNNC-Samsung-datasheet-8326407.pdf?src-supplier=TME; ComponentLink14URL: https://datasheet.octopart.com:443/CL03A104KP3NNNC-Samsung-Electro-Mechanics-datasheet-11541288.pdf?src-supplier=Arrow+Electronics; ComponentLink14Description: https://datasheet.octopart.com:443/CL03A104KP3NNNC-Samsung-Electro-Mechanics-datasheet-11541288.pdf?src-supplier=Arrow+Electronics; ComponentLink15URL: http://sigma.octopart.com:80/rohs_certificate/General-Multilayer-Ceramic-Capacitors-Samsung-family-110.pdf?src-supplier=Compliance+Statements; ComponentLink15Description: http://sigma.octopart.com:80/rohs_certificate/General-Multilayer-Ceramic-Capacitors-Samsung-family-110.pdf?src-supplier=Compliance+Statements; ComponentLink16URL: http://sigma.octopart.com:80/rohs_statement/General-Multilayer-Ceramic-Capacitors-Samsung-family-132.pdf?src-supplier=Compliance+Statements; ComponentLink16Description: http://sigma.octopart.com:80/rohs_statement/General-Multilayer-Ceramic-Capacitors-Samsung-family-132.pdf?src-supplier=Compliance+Statements; ComponentLink17URL: http://sigma.octopart.com:80/reach_statement/General-Multilayer-Ceramic-Capacitors-Samsung-family-133.pdf?src-supplier=Compliance+Statements; ComponentLink17Description: http://sigma.octopart.com:80/reach_statement/General-Multilayer-Ceramic-Capacitors-Samsung-family-133.pdf?src-supplier=Compliance+Statements
footprint C_0603_0.1uF_10V
pins: 1, 2

## CL03A223KP3NNNC
designator C?
Multilayer Ceramic Capacitor, 0.022 uF, 10 V, ± 10%, X5R, 0201 [0603 Metric]; Manufacturer: Samsung Electro-Mechanics; Manufacturer Part Number: CL03A223KP3NNNC; Value: 22nF; Voltage Rating: 10V; Supplier: DigiKey; Supplier Part Number: 1276-1329-1-ND; RoHS: Compliant; Category: Ceramic Capacitors; Stock: 118; Pricing: 1=0,1, 10=0,027, 50=0,018, 100=0,0153 (USD); Case/Package: 0201; Case Code (Imperial): 0201; Case Code (Metric): 0603; China RoHS: Compliant; Dielectric: X5R; Dielectric Material: Ceramic; Height: 330µm; Length: 609.6µm; Lifecycle Status: Obsolete; Material: Ceramic; Max Operating Temperature: 85°C; Min Operating Temperature: -55°C; Mounting Technology: Surface Mount; Number of Terminals: 2; Packaging: Tape & Reel (TR); REACH SVHC: Yes; Thickness: 330.2µm; Tolerance: 10%; Voltage Rating (DC): 10V; Width: 304.8µm; ComponentLink1URL: https://datasheet.octopart.com:443/CL03A223KP3NNNC-Samsung-Electro-Mechanics-datasheet-136322589.pdf?src-supplier=IHS; ComponentLink1Description: https://datasheet.octopart.com:443/CL03A223KP3NNNC-Samsung-Electro-Mechanics-datasheet-136322589.pdf?src-supplier=IHS; ComponentLink2URL: https://datasheet.octopart.com:443/CL03A223KP3NNNC-Samsung-Electro-Mechanics-datasheet-108317490.pdf?src-supplier=Future+Electronics; ComponentLink2Description: https://datasheet.octopart.com:443/CL03A223KP3NNNC-Samsung-Electro-Mechanics-datasheet-108317490.pdf?src-supplier=Future+Electronics; ComponentLink3URL: https://datasheet.octopart.com:443/CL03A223KP3NNNC-Samsung-Electro-Mechanics-datasheet-158434187.pdf?src-supplier=Future+Electronics; ComponentLink3Description: https://datasheet.octopart.com:443/CL03A223KP3NNNC-Samsung-Electro-Mechanics-datasheet-158434187.pdf?src-supplier=Future+Electronics; ComponentLink4URL: https://datasheet.octopart.com/CL03A223KP3NNNC-Samsung-Electro-Mechanics-datasheet-97040617.pdf; ComponentLink4Description: https://datasheet.octopart.com/CL03A223KP3NNNC-Samsung-Electro-Mechanics-datasheet-97040617.pdf; ComponentLink5URL: https://datasheet.octopart.com/CL03A223KP3NNNC-Samsung-Electro-Mechanics-datasheet-8324245.pdf; ComponentLink5Description: https://datasheet.octopart.com/CL03A223KP3NNNC-Samsung-Electro-Mechanics-datasheet-8324245.pdf
footprint C_0.022 µF_10V
pins: 1, 2